# Altium footprint library OSD335-X_Devboard.PcbLib: 40 footprints (part 3 of 3)
Each footprint in its own frame and in the unit in brackets; x right, y up, seen from the top. Pads: shape width x height; smd on the part's side, far side on the other; paste and mask are expansions set on the pad; w line width, h text height; cw(c..) or ccw(c..) is an arc to the next point about the centre after c.
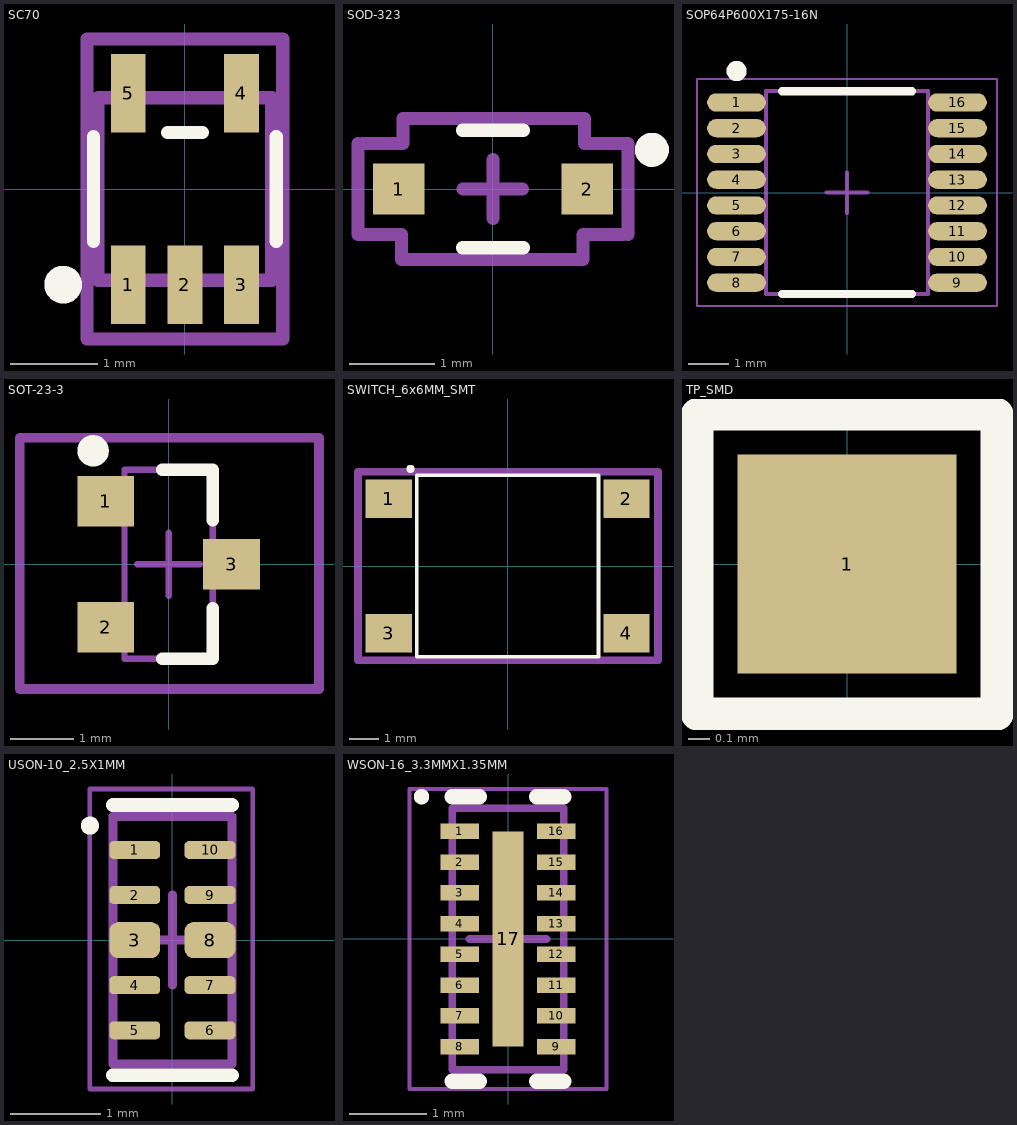
[diagram p2: the footprints below, top view; thin cyan lines are the x and y axes]

## SC70 [mm]
pads (5):
  rect 0.4x0.9 smd mask+0.05: 1(-0.65,-1.1) 2(0,-1.1) 3(0.65,-1.1) 4(0.65,1.1) 5(-0.65,1.1)
Top Overlay:
  circle w0.254: c-1.4,-1.1 r0.09
  lines w0.152: -1.05,-0.6 -1.05,0.6 ; -0.2,0.65 0.2,0.65 ; 1.05,-0.6 1.05,0.6
Mechanical 15:
  lines w0.152: -1.125,-1.725 1.125,-1.725 1.125,1.725 -1.125,1.725 -1.125,-1.725
Top Assembly:
  lines w0.152: -1,-1.05 -1,1.05 1,1.05 1,-1.05 -1,-1.05
  text "'.Designator'" at -0.55,-0.35 h0.81
3D body "SN74LVC1G07DCKRE4.stp": height 1.1, standoff 0, extent -1,-1.05 1,1.05

## SOD-323 [mm]
pads (2):
  rect 0.6x0.6 smd: 1(-1.1,0) 2(1.1,0)
Top Overlay:
  circle w0.254: c1.854,0.457 r0.072
  lines w0.152: -0.356,-0.686 0.356,-0.686 ; -0.356,0.686 0.356,0.686
Mechanical 15:
  lines w0.152: -1.575,0.533 -1.575,-0.533 -1.083,-0.533 ; -1.524,0.533 -1.049,0.533 -1.049,0.82 ; -1.067,-0.82 -1.067,-0.533 ; -1.05,-0.825 1.05,-0.825 ; -1.05,0.825 1.05,0.825 ; 0,-0.347 0,0 ; 0,0.347 0,0 ; 0.347,0 0,0 ; 1.049,-0.82 1.049,-0.533 1.524,-0.533 ; 1.067,0.533 1.067,0.82 ; 1.083,0.533 1.575,0.533 1.575,-0.533 ; 0,0 -0.347,0 0,0
Top Assembly:
  lines w0.152: -1.575,0.533 -1.575,-0.533 -1.083,-0.533 ; -1.524,0.533 -1.049,0.533 -1.049,0.82 ; -1.067,-0.82 -1.067,-0.533 ; -1.05,-0.825 1.05,-0.825 ; -1.05,0.825 1.05,0.825 ; 1.049,-0.82 1.049,-0.533 1.524,-0.533 ; 1.067,0.533 1.067,0.82 ; 1.083,0.533 1.575,0.533 1.575,-0.533
  text "'.Designator'" at -0.584,-0.432 h0.91
3D body "RB751V40,115.stp": height 1.09, standoff -0.01, extent -1.25,-0.625 1.25,0.625

## SOP64P600X175-16N [mm] "SOP, 16-Leads, Body 4.90x3.90mm, Pitch 0.64mm, IPC Medium Density"
height 1.76
pads (16):
  oval 1.45x0.45 smd: 1(-2.725,2.222) 2(-2.725,1.587) 3(-2.725,0.953) 4(-2.725,0.318) 5(-2.725,-0.318) 6(-2.725,-0.953) 7(-2.725,-1.587) 8(-2.725,-2.222) 9(2.725,-2.222) 10(2.725,-1.587) 11(2.725,-0.953) 12(2.725,-0.318) 13(2.725,0.318) 14(2.725,0.953) 15(2.725,1.587) 16(2.725,2.222)
Top Overlay:
  circle w0.25: c-2.725,2.997 r0.125
  lines w0.2: -1.6,-2.5 1.6,-2.5 ; -1.6,2.5 1.6,2.5
Mechanical 15:
  lines w0.05: -3.7,-2.8 -3.7,2.8 3.7,2.8 3.7,-2.8 -3.7,-2.8
  lines w0.1: -0.5,0 0.5,0 ; 0,-0.5 0,0.5
Top Assembly:
  lines w0.1: -2,-2.5 -2,2.5 2,2.5 2,-2.5 -2,-2.5
  text "'.Designator'" at -1.067,-0.686 h1.52
3D body "SOP64P600X175-16N.step": height 1.75, standoff 0, extent -2.997,-2.5 2.997,2.5

## SOT-23-3 [mm] "SOT23, 3-Leads, Body 2.9x1.3mm, Pitch 0.95mm, IPC Low Density"
pads (3):
  rect 0.9x0.8 smd: 1(-1,1) 2(-1,-1) 3(1,0)
Top Overlay:
  circle w0.25: c-1.2,1.8 r0.125
  lines w0.2: -0.1,-1.5 0.7,-1.5 0.7,-0.7 ; -0.1,1.5 0.7,1.5 0.7,0.7
Mechanical 13:
  lines w0.1: -0.7,-1.5 -0.7,1.5 0.7,1.5 0.7,-1.5 -0.7,-1.5
Mechanical 15:
  lines w0.05: -2.375,-2 -2.375,2 2.375,2 2.375,-2 -2.375,-2
  lines w0.1: -0.5,0 0.5,0 ; 0,-0.5 0,0.5
Top Assembly:
  lines w0.152: -2.362,-1.981 2.388,-1.981 2.388,2.007 -2.362,2.007 -2.362,-1.981
  text "'.Designator'" at -0.991,-0.762 h1.52
3D body "SOT-23-3.step": height 1.06, standoff -0.04, extent -1.25,-1.5 1.25,1.5

## SWITCH_6x6MM_SMT [mm]
pads (4):
  rect 1.55x1.3 smd: 1(-3.975,2.25) 2(3.975,2.25) 3(-3.975,-2.25) 4(3.975,-2.25)
Top Overlay:
  circle w0.2: c-3.25,3.25 r0.036
  lines w0.127: -3.036,-3.036 3.036,-3.036 3.036,3.036 -3.036,3.036 -3.036,-3.036
Mechanical 15:
  lines w0.127: -5,-3.15 -5,3.15 5,3.15 5,-3.15 -5,-3.15
Top Assembly:
  lines w0.254: -5.004,-3.15 -5.004,3.15 5.029,3.15 5.029,-3.15 -5.004,-3.15
  text "'.Designator'" at -1.778,-0.686 h1.52
3D body "4301x20438x6.stp": height 4.29, standoff -0.01, extent -4.5,-3.1 4.5,3.1

## TP_SMD [mm]
pads (1):
  rect 1x1 smd: 1(0,0)
Top Overlay:
  lines w0.152: 0.686,-0.686 0.686,0.686 ; 0.686,-0.686 0.686,0.686 ; 0.686,-0.686 -0.686,-0.686 -0.686,0.686 0.686,0.686

## USON-10_2.5X1MM [mm]
height 0.55
pads (10):
  rrect50% 0.565x0.2 smd mask+0.07: 1(-0.417,1) 2(-0.417,0.5) 4(-0.417,-0.5) 5(-0.417,-1) 6(0.417,-1) 7(0.417,-0.5) 9(0.417,0.5) 10(0.417,1)
  rrect50% 0.565x0.4 smd mask+0.07: 3(-0.417,0) 8(0.417,0)
Top Overlay:
  circle w0.1: c-0.914,1.27 r0.05
  lines w0.152: -0.66,-1.499 0.66,-1.499 ; -0.66,1.499 0.66,1.499
Mechanical 15:
  lines w0.05: -0.914,-1.651 0.889,-1.651 0.889,1.676 -0.914,1.676 -0.914,-1.651
  lines w0.1: -0.5,0 0.5,0 ; 0,-0.5 0,0.5
Top Assembly:
  lines w0.1: -0.66,-1.372 0.66,-1.372 0.66,1.372 -0.66,1.372 -0.66,-1.372
3D body "SON127P600-8N.step": height 0.55, standoff 0, extent -0.6,-1.3 0.6,1.3

## WSON-16_3.3MMX1.35MM [mm]
height 0.8
pads (17):
  rect 0.5x0.2 smd mask+0.051: 1(-0.625,1.4) 2(-0.625,1) 3(-0.625,0.6) 4(-0.625,0.2) 5(-0.625,-0.2) 6(-0.625,-0.6) 7(-0.625,-1) 8(-0.625,-1.4) 9(0.625,-1.4) 10(0.625,-1) 11(0.625,-0.6) 12(0.625,-0.2) 13(0.625,0.2) 14(0.625,0.6) 15(0.625,1) 16(0.625,1.4)
  rect 0.4x2.8 smd mask+0.051: 17(0,0)
Top Overlay:
  circle w0.1: c-1.125,1.85 r0.05
  lines w0.2: -0.725,-1.85 -0.37,-1.85 ; -0.725,1.85 -0.37,1.85 ; 0.37,-1.85 0.725,-1.85 ; 0.37,1.85 0.725,1.85
Mechanical 15:
  lines w0.05: -1.28,-1.95 -1.28,1.95 1.28,1.95 1.28,-1.95 -1.28,-1.95
  lines w0.1: -0.5,0 0.5,0 ; 0,-0.5 0,0.5
Top Assembly:
  lines w0.1: -0.725,-1.7 -0.725,1.7 0.725,1.7 0.725,-1.7 -0.725,-1.7
  text "'.Designator'" at 0.457,-0.559 h0.91
3D body "WSON-16.step": height 0.54, standoff 0, extent -0.724,-1.702 0.724,1.702